# Altium footprint library tpcs.PcbLib: 4 footprints
Each footprint in its own frame and in the unit in brackets; x right, y up, seen from the top. Pads: shape width x height; smd on the part's side, far side on the other; paste and mask are expansions set on the pad; w line width, h text height; cw(c..) or ccw(c..) is an arc to the next point about the centre after c.
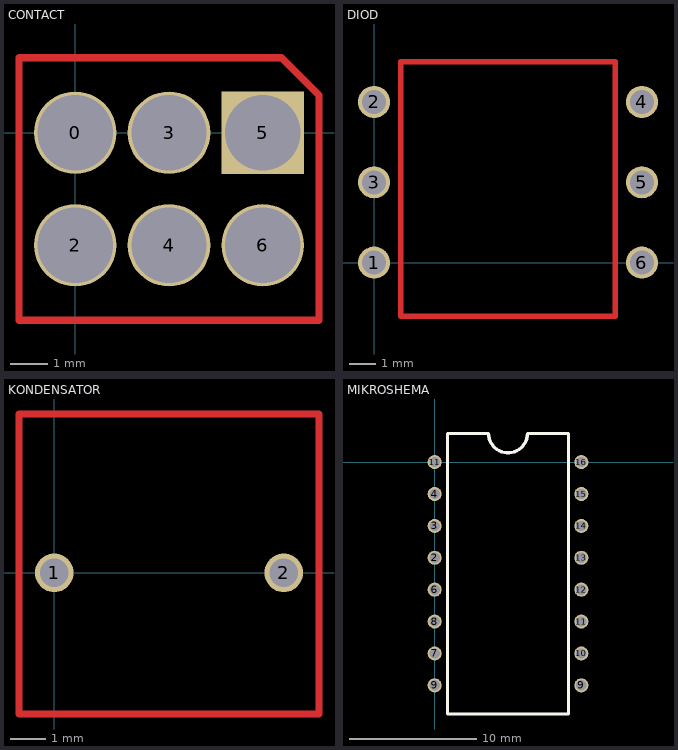
[diagram p0: the footprints below, top view; thin cyan lines are the x and y axes]

## CONTACT [mm]
pads (6):
  round 2.2 hole 2: 0(0,0) 2(0,-3) 3(2.5,0) 4(2.5,-3) 6(5,-3)
  rect 2.2x2.2 hole 2: 5(5,0)
Top Layer:
  lines w0.2: -1.5,-5 -1.5,2 5.5,2 6.5,1 6.5,-5 -1.5,-5
3D body "Contact.stp": height 1, standoff -1, extent -1.833,-4.318 7.167,2.682

## DIOD [mm]
pads (6):
  round 1.2 hole 0.9 unplated: 1(0,0) 2(0,6) 3(0,3) 4(10,6) 5(10,3) 6(10,0)
Top Layer:
  lines w0.2: 1,-2 9,-2 9,7 9,7.5 1,7.5 1,-2
3D body "Diode.stp": height 1.5, standoff -10, extent 0.779,-0.575 9.127,6.925

## KONDENSATOR [mm]
pads (2):
  round 1.1 hole 0.8: 1(0,0) 2(6.5,0)
Top Layer:
  lines w0.2: -1,-4 -1,4 -1,4.5 -0.5,4.5 7.5,4.5 7.5,-3.5 7.5,-4 7,-4 -1,-4
3D body "Capacitor.stp": height 2.25, standoff -25, extent -0.202,-2.742 6.298,3.758

## MIKROSHEMA [mm]
pads (16):
  round 1.1 hole 0.8: 2(0,-7.5) 3(0,-5) 4(0,-2.5) 6(0,-10) 7(0,-15) 8(0,-12.5) 9(0,-17.5) 9(11.5,-17.5) 10(11.5,-15) 11(0,0) 11(11.5,-12.5) 12(11.5,-10) 13(11.5,-7.5) 14(11.5,-5) 15(11.5,-2.5) 16(11.5,0)
Top Overlay:
  lines w0.254: 1,-19.75 1,2.25 4.226,2.25 ccw(c5.75,2.25) 7.274,2.25 10.5,2.25 10.5,-19.75 1,-19.75
3D body "DIPmicroscheme.stp": height 2.5, standoff -6.5, extent 0.967,-19.509 10.717,2.491